# Altium schematic symbol library 22232021.SchLib: 1 symbol
Pins are listed as number, name and electrical type; pins without a type are passive.

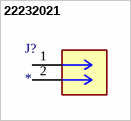
[diagram p0: symbol 22232021]

## 22232021
designator J?
Connector Header Through Hole 2 position 0.100 (2.54mm); MF: Molex; MP: 22232021; SnapEDA_Link: https://www.snapeda.com/parts/22232021/Molex/view-part/?ref=snap; Package: None; Value: *; Check_prices: https://www.snapeda.com/parts/22232021/Molex/view-part/?ref=eda
footprint CONN_A-6373-02A_MOL
pins: 1, 2